# Altium schematic symbol library ECS-320-18-4XEN.SchLib: 1 symbol
Pins are listed as number, name and electrical type; pins without a type are passive.

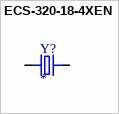
[diagram p0: symbol ECS-320-18-4XEN]

## ECS-320-18-4XEN
designator Y?
MP: ECS-320-18-4XEN; MF: {'manufacturer': u'ECS Inc.'}; Package: None; Price: None; Value: *; Availability: Unavailable
footprint XTAL_ECS-320-18-4XEN
pins: 1, 2